# EAGLE library part TCA9548A (library ds_ic_peripherals)
TCA9548A Low-Voltage 8-Channel I2C Switch with Reset
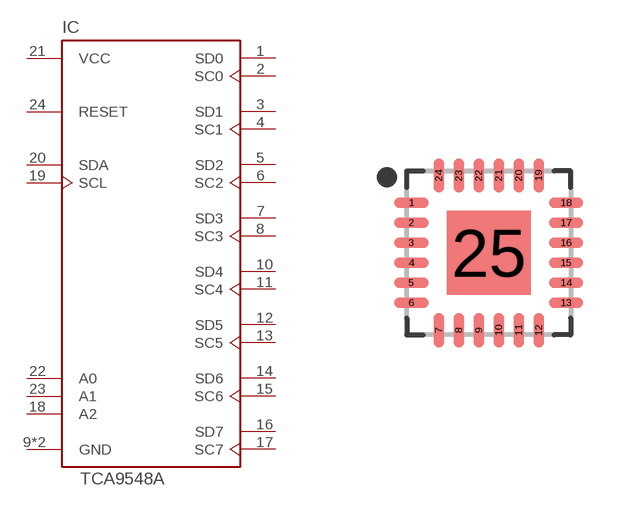
[diagram p34: symbol with the pads of QFN50P400X400X100-25T210N; footprint QFN50P400X400X100-25T210N]

Designator prefix IC

## TCA9548ARGER (DATASHEET: https://www.ti.com/lit/ds/symlink/tca9548a.pdf)  [QFN50P400X400X100-25T210N]
1  SD0
2  SC0
3  SD1
4  SC1
5  SD2
6  SC2
7  SD3
8  SC3
9  GND  pwr
10  SD4
11  SC4
12  SD5
13  SC5
14  SD6
15  SC6
16  SD7
17  SC7
18  A2  in
19  SCL
20  SDA
21  VCC  pwr
22  A0  in
23  A1  in
24  RESET  in
25  GND  pwr

## Footprint QFN50P400X400X100-25T210N (pad centres in mm)
24-QFN, 0.50 mm pitch, 4.00 X 4.00 X 1.00 mm body, 2.10 X 2.10 mm thermal pad 24-pin QFN package with 0.50 mm pitch with body size 4.00 X 4.00 X 1.00 mm and thermal pad size 2.10 X 2.10 mm
smd 0.86 x 0.264: 1 -1.935,1.25; 2 -1.935,0.75; 3 -1.935,0.25; 4 -1.935,-0.25; 5 -1.935,-0.75; 6 -1.935,-1.25; 13 1.935,-1.25; 14 1.935,-0.75; 15 1.935,-0.25; 16 1.935,0.25; 17 1.935,0.75; 18 1.935,1.25
smd 0.264 x 0.86: 7 -1.25,-1.935; 8 -0.75,-1.935; 9 -0.25,-1.935; 10 0.25,-1.935; 11 0.75,-1.935; 12 1.25,-1.935; 19 1.25,1.935; 20 0.75,1.935; 21 0.25,1.935; 22 -0.25,1.935; 23 -0.75,1.935; 24 -1.25,1.935
smd 2.1 x 2.1: 25 0,0